# Altium footprint library 5015681207.PcbLib: 1 footprints
Each footprint in its own frame and in the unit in brackets; x right, y up, seen from the top. Pads: shape width x height; smd on the part's side, far side on the other; paste and mask are expansions set on the pad; w line width, h text height; cw(c..) or ccw(c..) is an arc to the next point about the centre after c.
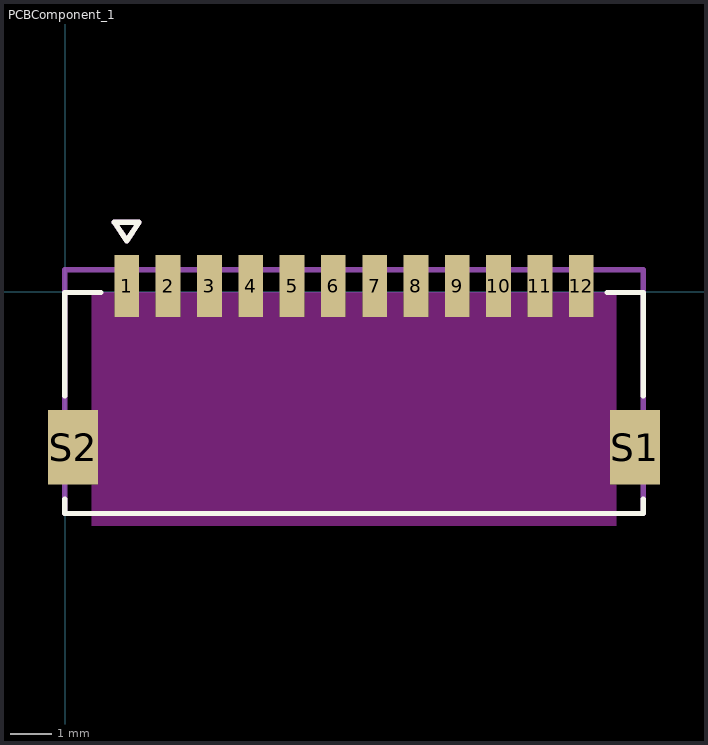
[diagram p0: the footprint, top view; thin cyan lines are the x and y axes]

## PCBComponent_1 [mm]
pads (14):
  rect 0.6x1.5 smd mask+0: 1(1.485,0.137) 2(2.485,0.137) 3(3.485,0.137) 4(4.485,0.137) 5(5.485,0.137) 6(6.485,0.137) 7(7.485,0.137) 8(8.485,0.137) 9(9.485,0.137) 10(10.485,0.137) 11(11.485,0.137) 12(12.485,0.137)
  rect 1.2x1.8 smd mask+0: S1(13.785,-3.763) S2(0.185,-3.763)
Top Overlay:
  lines w0.127: -0.015,-5.013 -0.015,-5.363 13.985,-5.363 13.985,-5.013 ; -0.015,-2.513 -0.015,-0.013 0.865,-0.013 ; 13.105,-0.013 13.985,-0.013 13.985,-2.513 ; 1.185,1.687 1.485,1.237 1.785,1.687 1.185,1.687
Top Solder:
  region: 12.861,-0.689 12.109,-0.689 12.109,0.963 12.861,0.963
  region: 11.861,-0.689 11.109,-0.689 11.109,0.963 11.861,0.963
  region: 10.861,-0.689 10.109,-0.689 10.109,0.963 10.861,0.963
  region: 9.861,-0.689 9.109,-0.689 9.109,0.963 9.861,0.963
  region: 8.861,-0.689 8.109,-0.689 8.109,0.963 8.861,0.963
  region: 7.861,-0.689 7.109,-0.689 7.109,0.963 7.861,0.963
  region: 6.861,-0.689 6.109,-0.689 6.109,0.963 6.861,0.963
  region: 5.861,-0.689 5.109,-0.689 5.109,0.963 5.861,0.963
  region: 4.861,-0.689 4.109,-0.689 4.109,0.963 4.861,0.963
  region: 3.861,-0.689 3.109,-0.689 3.109,0.963 3.861,0.963
  region: 14.461,-4.739 13.109,-4.739 13.109,-2.787 14.461,-2.787
  region: 0.861,-4.739 -0.491,-4.739 -0.491,-2.787 0.861,-2.787
  region: 1.861,-0.689 1.109,-0.689 1.109,0.963 1.861,0.963
  region: 2.861,-0.689 2.109,-0.689 2.109,0.963 2.861,0.963
Keep-Out Layer:
  region: 13.335,-2.858 13.18,-2.858 13.18,-4.668 13.335,-4.668 13.335,-5.663 0.635,-5.663 0.635,-4.668 0.79,-4.668 0.79,-2.858 0.635,-2.858 0.635,-0.013 1.18,-0.013 1.18,-0.618 1.79,-0.618 1.79,-0.013 2.18,-0.013 2.18,-0.618 2.79,-0.618 2.79,-0.013 3.18,-0.013 3.18,-0.618 3.79,-0.618 3.79,-0.013 4.18,-0.013 4.18,-0.618 4.79,-0.618 4.79,-0.013 5.18,-0.013 5.18,-0.618 5.79,-0.618 5.79,-0.013 6.18,-0.013 6.18,-0.618 6.79,-0.618 6.79,-0.013 7.18,-0.013 7.18,-0.618 7.79,-0.618 7.79,-0.013 8.18,-0.013 8.18,-0.618 8.79,-0.618 8.79,-0.013 9.18,-0.013 9.18,-0.618 9.79,-0.618 9.79,-0.013 10.18,-0.013 10.18,-0.618 10.79,-0.618 10.79,-0.013 11.18,-0.013 11.18,-0.618 11.79,-0.618 11.79,-0.013 12.18,-0.013 12.18,-0.618 12.79,-0.618 12.79,-0.013 13.335,-0.013
Mechanical 13:
  lines w0.127: -0.015,-5.363 -0.015,0.537 13.985,0.537 13.985,-5.363 -0.015,-5.363 ; 1.185,1.687 1.485,1.237 1.785,1.687 1.185,1.687
3D body "step_temp.STEP": height 2.68, standoff -3.22, extent -0.015,-5.413 13.985,-0.713